# Altium footprint library 597-3311-402F.PcbLib: 1 footprints
Each footprint in its own frame and in the unit in brackets; x right, y up, seen from the top. Pads: shape width x height; smd on the part's side, far side on the other; paste and mask are expansions set on the pad; w line width, h text height; cw(c..) or ccw(c..) is an arc to the next point about the centre after c.
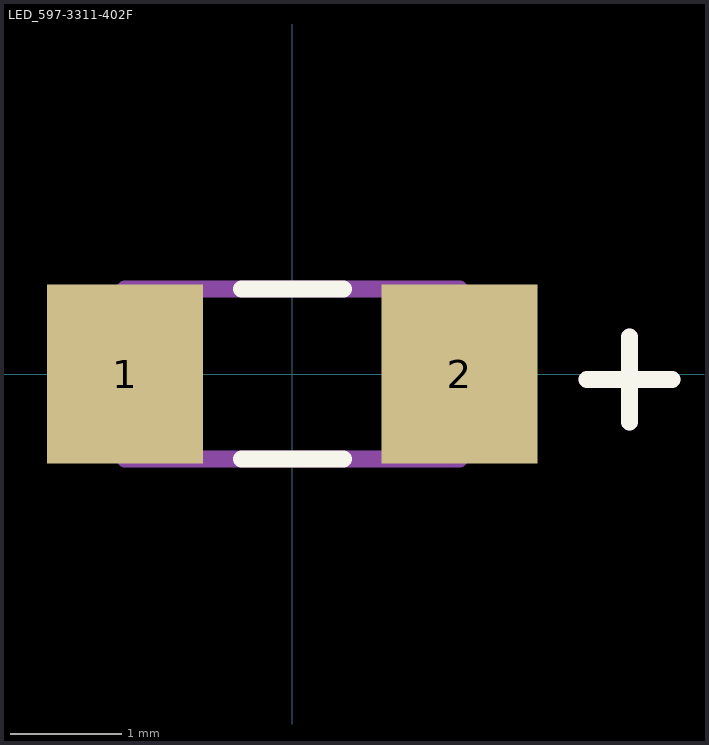
[diagram p0: the footprint, top view; thin cyan lines are the x and y axes]

## LED_597-3311-402F [mil]
pads (2):
  rect 55x63 smd paste-1000 mask-1000: 1(-59,0) 2(59,0)
Top Overlay:
  lines w6: -18,-30 18,-30 ; -18,30 18,30 ; 104,-2 134,-2 ; 119,-17 119,13
Top Paste:
  region: 31.5,-31.5 86.5,-31.5 86.5,31.5 31.5,31.5
  region: -86.5,-31.5 -31.5,-31.5 -31.5,31.5 -86.5,31.5
Top Solder:
  region: 27.56,-35.44 90.44,-35.44 90.44,35.44 27.56,35.44
  region: -90.44,-35.44 -27.56,-35.44 -27.56,35.44 -90.44,35.44
Mechanical 1:
  lines w6: 104,-2 134,-2 ; 119,-17 119,13 ; -59,-30 -59,30 59,30 59,-30 -59,-30